# EAGLE library part CC2541_SM (library iBionics)
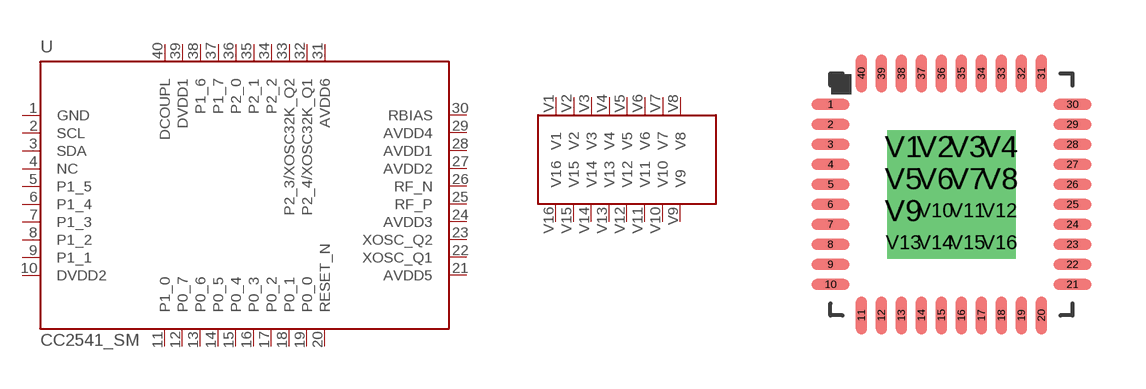
[diagram p26: symbol with the pads of QFN40-6X6_SM; footprint QFN40-6X6_SM]

Designator prefix -

## CC2541_SM  [QFN40-6X6_SM]
1  GND  pwr
2  SCL
3  SDA
4  NC  pwr
5  P1_5
6  P1_4
7  P1_3
8  P1_2
9  P1_1
10  DVDD2  pwr
11  P1_0
12  P0_7
13  P0_6
14  P0_5
15  P0_4
16  P0_3
17  P0_2
18  P0_1
19  P0_0
20  RESET_N  in
21  AVDD5  pwr
22  XOSC_Q1
23  XOSC_Q2
24  AVDD3  pwr
25  RF_P  in
26  RF_N  in
27  AVDD2  pwr
28  AVDD1  pwr
29  AVDD4  pwr
30  RBIAS
31  AVDD6  pwr
32  P2_4/XOSC32K_Q1
33  P2_3/XOSC32K_Q2
34  P2_2
35  P2_1
36  P2_0
37  P1_7
38  P1_6
39  DVDD1  pwr
40  DCOUPL  pwr
V1  V1  pwr
V2  V2  pwr
V3  V3  pwr
V4  V4  pwr
V5  V5  pwr
V6  V6  pwr
V7  V7  pwr
V8  V8  pwr
V9  V9  pwr
V10  V10  pwr
V11  V11  pwr
V12  V12  pwr
V13  V13  pwr
V14  V14  pwr
V15  V15  pwr
V16  V16  pwr

## Footprint QFN40-6X6_SM (pad centres in mm)
smd 0.95 x 0.28: 1 -3.025,2.25; 2 -3.025,1.75; 3 -3.025,1.25; 4 -3.025,0.75; 5 -3.025,0.25; 6 -3.025,-0.25; 7 -3.025,-0.75; 8 -3.025,-1.25; 9 -3.025,-1.75; 10 -3.025,-2.25; 21 3.025,-2.25; 22 3.025,-1.75; 23 3.025,-1.25; 24 3.025,-0.75; 25 3.025,-0.25; 26 3.025,0.25; 27 3.025,0.75; 28 3.025,1.25; 29 3.025,1.75; 30 3.025,2.25
smd 0.28 x 0.95: 11 -2.25,-3.025; 12 -1.75,-3.025; 13 -1.25,-3.025; 14 -0.75,-3.025; 15 -0.25,-3.025; 16 0.25,-3.025; 17 0.75,-3.025; 18 1.25,-3.025; 19 1.75,-3.025; 20 2.25,-3.025; 31 2.25,3.025; 32 1.75,3.025; 33 1.25,3.025; 34 0.75,3.025; 35 0.25,3.025; 36 -0.25,3.025; 37 -0.75,3.025; 38 -1.25,3.025; 39 -1.75,3.025; 40 -2.25,3.025
drill 0.3 pad 0.8 square: V1 -1.2,1.2; V2 -0.4,1.2; V3 0.4,1.2; V4 1.2,1.2; V5 -1.2,0.4; V6 -0.4,0.4; V7 0.4,0.4; V8 1.2,0.4; V9 -1.2,-0.4; V10 -0.4,-0.4; V11 0.4,-0.4; V12 1.2,-0.4; V13 -1.2,-1.2; V14 -0.4,-1.2; V15 0.4,-1.2; V16 1.2,-1.2